# EAGLE library part MICRO-SD (library kwoo)
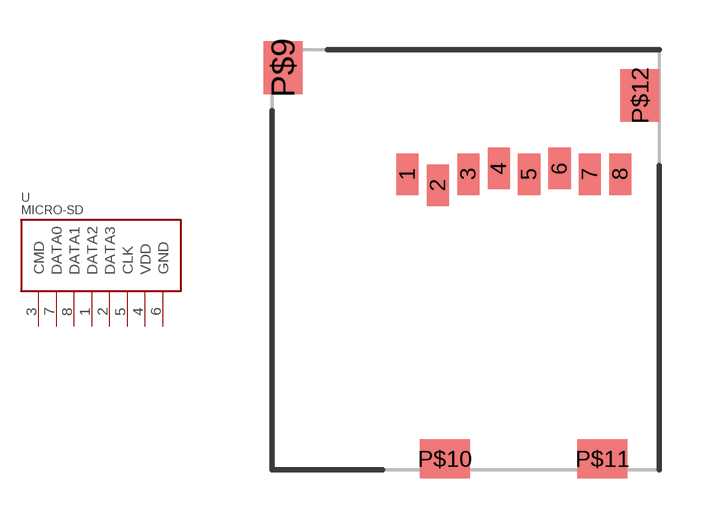
[diagram p8: symbol with the pads of MICRO_SD; footprint MICRO_SD]

Designator prefix -

## MICRO-SD  [MICRO_SD]
1  DATA2
2  DATA3
3  CMD
4  VDD
5  CLK
6  GND
7  DATA0
8  DATA1

## Footprint MICRO_SD (pad centres in mm)
smd 0.8 x 1.5: 1 -9.1,10.7; 2 -8,10.3; 3 -6.9,10.7; 4 -5.8,10.9; 5 -4.7,10.7; 6 -3.6,10.9; 7 -2.5,10.7; 8 -1.4,10.7
smd 1.4 x 1.9: P$9 -13.6,14.55; P$12 -0.7,13.55
smd 1.8 x 1.4: P$10 -7.75,0.4; P$11 -2.05,0.4